# Altium schematic symbol library C3216JB1H106K160AB.SchLib: 2 symbols
Pins are listed as number, name and electrical type; pins without a type are passive.

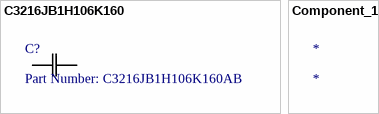
[diagram p0: symbols C3216JB1H106K160 to Component_1]

## C3216JB1H106K160
designator C?, comment Part Number: C3216JB1H106K160AB
No Description Available; Vendor: TDK; Built_By: EMA_UL_Team; Type: DEV; Manufacturer_Part_Number: C3216JB1H106K160AB; Copyright: Copyright (C) 2018 Accelerated Designs. All rights reserved; RefDes: RefDes; Value: Value
footprint CAP_3216
pins: 1, 2

## Component_1
designator *